# Altium integrated library BC237.IntLib: 1 symbol
Pins are listed as number, name and electrical type; pins without a type are passive.

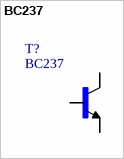
[diagram p0: symbol BC237]

## BC237
designator T?
SnapEDA_Link: https://www.snapeda.com/parts/BC237/ON%20Semiconductor/view-part/558414/?ref=snap; Value: *
footprint *TO92
pins: 1 E, 2 B, 3 C